# Altium schematic symbol library NPN.Schlib: 2 symbols
Pins are listed as number, name and electrical type; pins without a type are passive.

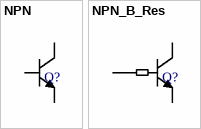
[diagram p0: symbols NPN to NPN_B_Res]

## NPN
designator Q?
NPN General-purpose Transistor
pins: 1 B, 2 E, 3 C

## NPN_B_Res
designator Q?
NPN General-purpose Transistor
pins: 1 B, 2 E, 3 C